# EAGLE library part LT3081 (library MSA_lib)
LT3081 LDO Adjustable
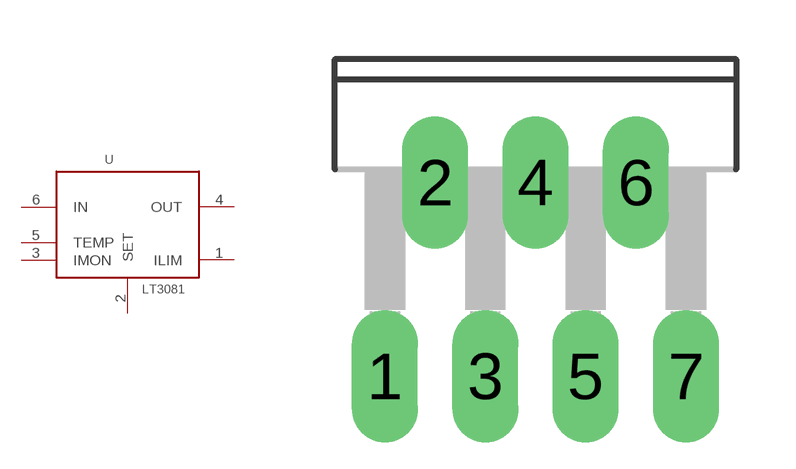
[diagram p23: symbol with the pads of TO220-7; footprint TO220-7]

Designator prefix U

## LT3081  [TO220-7]
1  ILIM
2  SET
3  IMON
4  OUT
5  TEMP
6  IN

## Footprint TO220-7 (pad centres in mm)
Molded Package
drill 1.118 pad 1.626 long: 1 -3.81,-8.036; 2 -2.54,-3.126; 3 -1.27,-8.036; 4 0,-3.126; 5 1.27,-8.036; 6 2.54,-3.126; 7 3.81,-8.036